# Altium schematic symbol library SC16IS752IPW,128.SchLib: 1 symbol
Pins are listed as number, name and electrical type; pins without a type are passive.

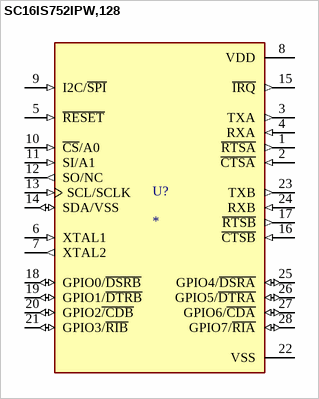
[diagram p0: symbol SC16IS752IPW,128]

## SC16IS752IPW,128
designator U?
RS232, RS485 Controller - IÂ²C, SPI, UART Interface 28-TSSOP; MF: NXP Semiconductors; MP: SC16IS752IPW,128; SnapEDA_Link: https://www.snapeda.com/parts/SC16IS752IPW,128/NXP+Semiconductors/view-part/?ref=snap; Package: TSSOP-28 NXP USA; Value: *; Check_prices: https://www.snapeda.com/parts/SC16IS752IPW,128/NXP+Semiconductors/view-part/?ref=eda
footprint SOP65P640X110-28N
pins: 1 ~{RTSA} (out), 2 ~{CTSA} (in), 3 TXA (out), 4 RXA (in), 5 ~{RESET} (in), 6 XTAL1 (in), 7 XTAL2 (out), 8 VDD (power), 9 I2C/~{SPI} (in), 10 ~{CS}/A0 (in), 11 SI/A1 (in), 12 SO/NC (out), 13 SCL/SCLK (in), 14 SDA/VSS (io), 15 ~{IRQ} (out), 16 ~{CTSB} (in), 17 ~{RTSB} (out), 18 GPIO0/~{DSRB} (io), 19 GPIO1/~{DTRB} (io), 20 GPIO2~{/CDB} (io), 21 GPIO3/~{RIB} (io), 22 VSS (power), 23 TXB (out), 24 RXB (in), 25 GPIO4/~{DSRA} (io), 26 GPIO5/~{DTRA} (io), 27 GPIO6/~{CDA} (io), 28 GPIO7/~{RIA} (io)